# EAGLE library part AT89S52-24PU_AT89S52-24PU (library project)
MICROCHIP - AT89S52-24PU - MCU, 8BIT, 8051, 24MHZ, DIP-40 Source: Datasheet <http://www.atmel.com/images/doc1919.pdf>
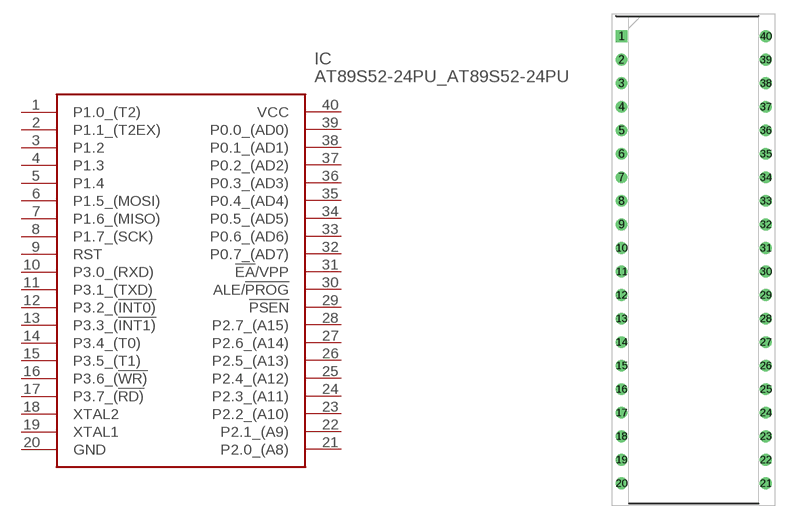
[diagram p0: symbol with the pads of AT89S52-24PU_DIP1556W56P254L5232H483Q40N; footprint AT89S52-24PU_DIP1556W56P254L5232H483Q40N]

Designator prefix IC

## AT89S52-24PU_AT89S52-24PU (DESCRIPTION: MICROCHIP - AT89S52-24PU - MCU, 8BIT, 8051, 24MHZ, DIP-40; HEIGHT: 4.826mm; MANUFACTURER_NAME: Microchip; MANUFACTURER_PART_NUMBER: AT89S52-24PU; MOUSER_PART_NUMBER: 556-A89S52-24PU; MOUSER_PRICE-STOCK: https://www.mouser.co.uk/ProductDetail/Microchip-Technology-Atmel/AT89S52-24PU?qs=8jWQYweyg6NY4trJB40Tig%3D%3D)  [AT89S52-24PU_DIP1556W56P254L5232H483Q40N]
1  P1.0_(T2)
2  P1.1_(T2EX)
3  P1.2
4  P1.3
5  P1.4
6  P1.5_(MOSI)
7  P1.6_(MISO)
8  P1.7_(SCK)
9  RST
10  P3.0_(RXD)
11  P3.1_(TXD)
12  P3.2_(!INT0)
13  P3.3_(!INT1)
14  P3.4_(T0)
15  P3.5_(T1)
16  P3.6_(!WR)
17  P3.7_(!RD)
18  XTAL2
19  XTAL1
20  GND
21  P2.0_(A8)
22  P2.1_(A9)
23  P2.2_(A10)
24  P2.3_(A11)
25  P2.4_(A12)
26  P2.5_(A13)
27  P2.6_(A14)
28  P2.7_(A15)
29  !PSEN
30  ALE/!PROG
31  !EA!/VPP
32  P0.7_(AD7)
33  P0.6_(AD6)
34  P0.5_(AD5)
35  P0.4_(AD4)
36  P0.3_(AD3)
37  P0.2_(AD2)
38  P0.1_(AD1)
39  P0.0_(AD0)
40  VCC

## Footprint AT89S52-24PU_DIP1556W56P254L5232H483Q40N (pad centres in mm)
40P6
drill 0.759 pad 1.159 square: 1 -7.779,24.13
drill 0.759 pad 1.159: 2 -7.779,21.59; 3 -7.779,19.05; 4 -7.779,16.51; 5 -7.779,13.97; 6 -7.779,11.43; 7 -7.779,8.89; 8 -7.779,6.35; 9 -7.779,3.81; 10 -7.779,1.27; 11 -7.779,-1.27; 12 -7.779,-3.81; 13 -7.779,-6.35; 14 -7.779,-8.89; 15 -7.779,-11.43; 16 -7.779,-13.97; 17 -7.779,-16.51; 18 -7.779,-19.05; 19 -7.779,-21.59; 20 -7.779,-24.13; 21 7.779,-24.13; 22 7.779,-21.59; 23 7.779,-19.05; 24 7.779,-16.51; 25 7.779,-13.97; 26 7.779,-11.43; 27 7.779,-8.89; 28 7.779,-6.35; 29 7.779,-3.81; 30 7.779,-1.27; 31 7.779,1.27; 32 7.779,3.81; 33 7.779,6.35; 34 7.779,8.89; 35 7.779,11.43; 36 7.779,13.97; 37 7.779,16.51; 38 7.779,19.05; 39 7.779,21.59; 40 7.779,24.13